# Altium footprint library 2021-06-09_16-35-20.PcbLib: 1 footprints
Each footprint in its own frame and in the unit in brackets; x right, y up, seen from the top. Pads: shape width x height; smd on the part's side, far side on the other; paste and mask are expansions set on the pad; w line width, h text height; cw(c..) or ccw(c..) is an arc to the next point about the centre after c.
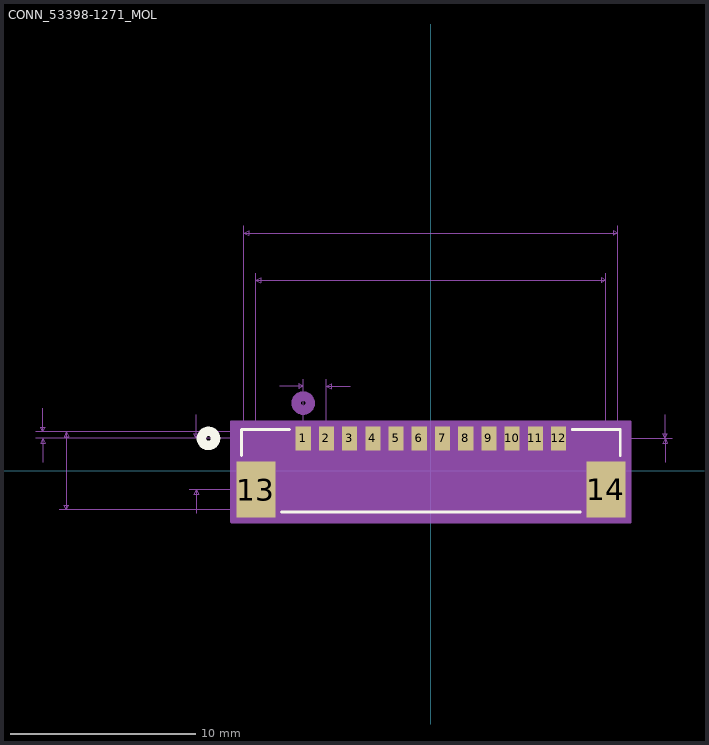
[diagram p0: the footprint, top view; thin cyan lines are the x and y axes]

## CONN_53398-1271_MOL [mil]
pads (14):
  rect 32x51 smd paste+0 mask+0: 1(-270.67,68.72) 2(-221.46,68.72) 3(-172.24,68.72) 4(-123.03,68.72) 5(-73.82,68.72) 6(-24.61,68.72) 7(24.61,68.72) 8(73.82,68.72) 9(123.03,68.72) 10(172.24,68.72) 11(221.46,68.72) 12(270.67,68.72)
  rect 83x118 smd: 13(-371.06,-39.55) 14(371.06,-39.55)
Top Overlay:
  circle w20: c-471.5,68.72 r15
  lines w6: -401.5,32.55 -401.5,87.5 -299.77,87.5 ; -316.46,-87.5 316.46,-87.5 ; 299.77,87.5 401.5,87.5 401.5,32.55
Bottom Overlay:
  circle w20: c-471.5,68.72 r15
Mechanical 5:
  region: -411.5,97.5 411.5,97.5 411.5,-97.5 -411.5,-97.5
Mechanical 7:
  lines w1: -837.56,68.72 0,68.72 -512.56,68.72 ; -837.56,82.5 -396.5,82.5 ; -822.56,18.72 -822.56,68.72 ; -822.56,132.5 -822.56,82.5 ; -787.56,-82.5 -396.5,-82.5 ; -787.56,82.5 -396.5,82.5 ; -512.56,-39.55 371.06,-39.55 371.06,419.22 ; -497.56,-89.55 -497.56,-39.55 ; -497.56,118.72 -497.56,68.72 ; -396.5,519.22 -396.5,82.5 ; -371.06,-39.55 -371.06,419.22 ; -320.67,179.22 -270.67,179.22 ; -270.67,194.22 -270.67,68.72 ; -221.46,68.72 -221.46,194.22 ; -171.46,179.22 -221.46,179.22 ; 396.5,82.5 396.5,519.22 ; 496.5,18.72 496.5,68.72 ; 496.5,118.72 496.5,68.72 ; -822.56,68.72 -827.56,58.72 -817.56,58.72 -822.56,68.72 ; -822.56,82.5 -827.56,92.5 -817.56,92.5 -822.56,82.5 ; -772.56,-82.5 -772.56,82.5 ; -772.56,-82.5 -777.56,-72.5 -767.56,-72.5 -772.56,-82.5 ; -772.56,82.5 -777.56,72.5 -767.56,72.5 -772.56,82.5 ; -497.56,-39.55 -502.56,-49.55 -492.56,-49.55 -497.56,-39.55 ; -497.56,68.72 -502.56,78.72 -492.56,78.72 -497.56,68.72 ; -396.5,504.22 396.5,504.22 ; -396.5,504.22 -386.5,509.22 -386.5,499.22 -396.5,504.22 ; -371.06,404.22 371.06,404.22 ; -371.06,404.22 -361.06,409.22 -361.06,399.22 -371.06,404.22 ; -270.67,68.72 511.5,68.72 -270.67,68.72 ; -270.67,179.22 -280.67,184.22 -280.67,174.22 -270.67,179.22 ; -221.46,179.22 -211.46,184.22 -211.46,174.22 -221.46,179.22 ; 371.06,404.22 361.06,409.22 361.06,399.22 371.06,404.22 ; 396.5,504.22 386.5,509.22 386.5,499.22 396.5,504.22 ; 496.5,68.72 491.5,78.72 501.5,78.72 496.5,68.72 ; 496.5,68.72 491.5,58.72 501.5,58.72 496.5,68.72
  text "Default Padstyle: RX32Y51D0T" at -350,-258.55 h50
  text "1st Mtg Padstyle: RX83Y118D0T" at -362.5,-333.55 h50
  text "2nd Mtg Padstyle: EX70Y70D70P" at -362.5,-408.55 h50
  text "3rd Mtg Padstyle: EX70Y70D70P" at -362.5,-483.55 h50
  text "Left Mtg Padstyle: EX60Y60D30P" at -375,-558.55 h50
  text "Right Mtg Padstyle: EX60Y60D30P" at -387.5,-633.55 h50
  text "Alt Padstyle 1: OX60Y90D30P" at -337.5,-708.55 h50
  text "Alt Padstyle 2: OX90Y60D30P" at -337.5,-783.55 h50
  text "0.049in/1.25mm" at -247.44,199.22 h25
  text "0.742in/18.85mm" at -93.75,424.22 h25
  text "0.793in/20.142mm" at -100,524.22 h25
  text "0in/0mm" at 516.5,56.22 h25
  text "-0.108in/-2.75mm" at -717.56,2.09 h25
  text "0.014in/0.35mm" at -1017.56,63.11 h25
  text "0.165in/4.191mm" at -980.06,-12.5 h25
Mechanical 13:
  circle w20: c-270.67,143.72 r15
  lines w1: -396.5,-82.5 396.5,-82.5 396.5,82.5 -396.5,82.5 -396.5,-82.5
Mechanical 15:
  region: 422.56,104.22 -422.56,104.22 -422.56,-108.55 422.56,-108.55
  lines w6: -422.56,-108.55 -422.56,104.22 422.56,104.22 422.56,-108.55 -422.56,-108.55
3D body: height 10, standoff 0, extent 0,0 10,10